# EAGLE library part AD822ARZ (library AD822ARZ)
Dual low power op amp,AD822AR SO8 Source: Datasheet <https://www.analog.com/media/en/technical-documentation/data-sheets/AD822.pdf>
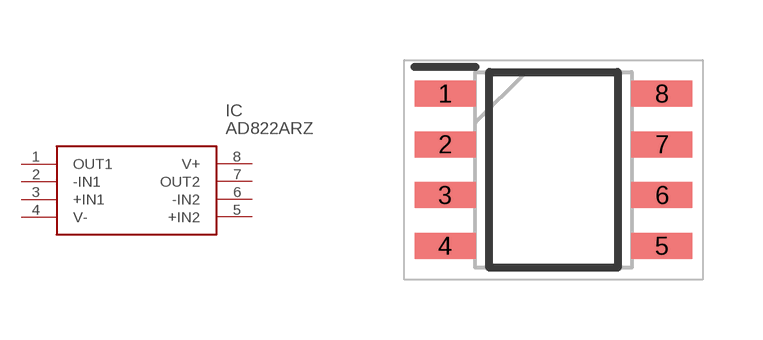
[diagram p0: symbol with the pads of SOIC127P600X175-8N; footprint SOIC127P600X175-8N]

Designator prefix IC

## AD822ARZ (Description: Dual low power op amp,AD822AR SO8; Height: 1.75mm; Manufacturer_Name: Analog Devices; Manufacturer_Part_Number: AD822ARZ; Mouser_Part_Number: 584-AD822ARZ; Mouser_Price-Stock: https://www.mouser.co.uk/ProductDetail/Analog-Devices/AD822ARZ?qs=%2FtpEQrCGXCyQk45j94GovQ%3D%3D)  [SOIC127P600X175-8N]
1  OUT1
2  -IN1
3  +IN1
4  V-
5  +IN2
6  -IN2
7  OUT2
8  V+

## Footprint SOIC127P600X175-8N (pad centres in mm)
R-8 (SOIC)
smd 1.525 x 0.65: 1 -2.712,1.905; 2 -2.712,0.635; 3 -2.712,-0.635; 4 -2.712,-1.905; 5 2.712,-1.905; 6 2.712,-0.635; 7 2.712,0.635; 8 2.712,1.905